# Altium footprint library SamacSys.PcbLib: 14 footprints
Each footprint in its own frame and in the unit in brackets; x right, y up, seen from the top. Pads: shape width x height; smd on the part's side, far side on the other; paste and mask are expansions set on the pad; w line width, h text height; cw(c..) or ccw(c..) is an arc to the next point about the centre after c.
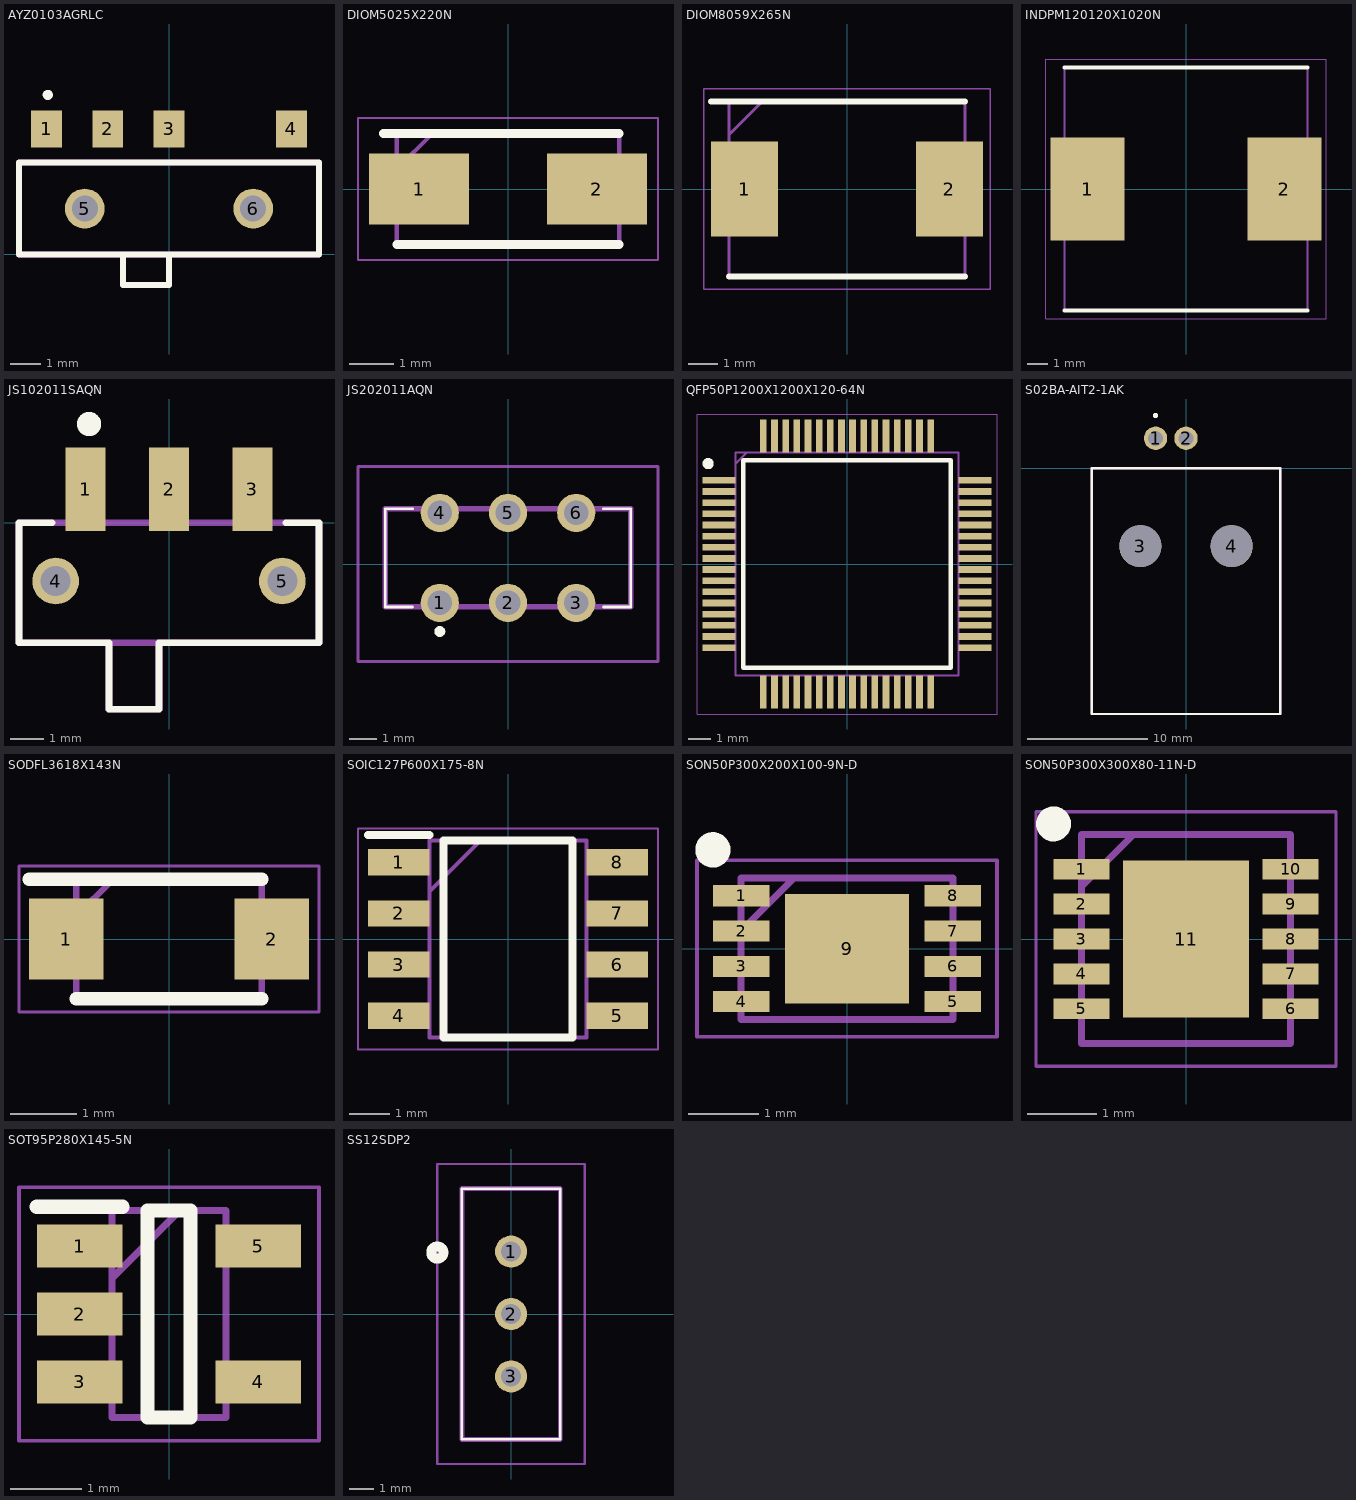
[diagram p0: the footprints below, top view; thin cyan lines are the x and y axes]

## AYZ0103AGRLC [mm]
pads (6):
  rect 1x1.2 smd: 1(-4,4.1) 2(-2,4.1) 3(0,4.1) 4(4,4.1)
  round 1.3 hole 0.85: 5(-2.75,1.5) 6(2.75,1.5)
Top Overlay:
  circle w0.2: c-3.96,5.212 r0.065
  lines w0.2: -1.5,0 -1.5,-1 0,-1 0,0 ; -4.9,0 -4.9,3 4.9,3 4.9,0 -4.9,0
Mechanical 13:
  lines w0.2: -1.5,0.001 -1.5,-1 0,-1 0,0 ; -4.9,0 4.9,0 4.9,3 -4.9,3 -4.9,0

## DIOM5025X220N [mm]
pads (2):
  rect 2.25x1.6 smd: 1(-2,0) 2(2,0)
Top Overlay:
  lines w0.2: -2.8,1.25 2.5,1.25 ; -2.5,-1.25 2.5,-1.25
Mechanical 13:
  lines w0.1: -2.5,0.45 -1.7,1.25 ; -2.5,-1.25 2.5,-1.25 2.5,1.25 -2.5,1.25 -2.5,-1.25
Mechanical 15:
  lines w0.05: -3.375,-1.6 3.375,-1.6 3.375,1.6 -3.375,1.6 -3.375,-1.6
3D body "EC11FS2.stp": height 2.2, standoff 0, extent -2.5,-1.25 2.5,1.25

## DIOM8059X265N [mm]
pads (2):
  rect 2.25x3.2 smd: 1(-3.45,0) 2(3.45,0)
Top Overlay:
  lines w0.2: -4.575,2.95 3.975,2.95 ; -3.975,-2.95 3.975,-2.95
Mechanical 13:
  lines w0.1: -3.975,1.825 -2.85,2.95 ; -3.975,-2.95 -3.975,2.95 3.975,2.95 3.975,-2.95 -3.975,-2.95
Mechanical 15:
  lines w0.05: -4.825,-3.375 -4.825,3.375 4.825,3.375 4.825,-3.375 -4.825,-3.375
3D body "SS34.stp": height 2.65, standoff 0, extent -3.975,-2.95 3.975,2.95

## INDPM120120X1020N [mm]
pads (2):
  rect 3.65x5.1 smd: 1(-4.85,0) 2(4.85,0)
Top Overlay:
  lines w0.2: -6,-6 6,-6 ; -6,6 6,6
Mechanical 13:
  lines w0.1: -6,-6 -6,6 6,6 6,-6 -6,-6
Mechanical 15:
  lines w0.05: -6.925,-6.4 -6.925,6.4 6.925,6.4 6.925,-6.4 -6.925,-6.4
3D body "MSS1210-683MED.stp": height 10.2, standoff 0, extent -6,-6 6,6

## JS102011SAQN [mm]
pads (5):
  rect 1.2x2.5 smd: 1(-2.5,1) 2(0,1) 3(2.5,1)
  round 1.4 hole 0.9: 4(-3.4,-1.75) 5(3.4,-1.75)
Top Overlay:
  circle w0.4: c-2.399,2.96 r0.164
  lines w0.2: -3.5,0 -4.5,0 -4.5,-3.6 -1.8,-3.6 -1.8,-5.6 -0.3,-5.6 -0.3,-3.6 4.5,-3.6 4.5,0 3.5,0
Mechanical 13:
  lines w0.2: -1.8,-3.6 -1.8,-5.6 -0.3,-5.6 -0.3,-3.6 ; -4.5,-3.6 4.5,-3.6 4.5,0 -4.5,0 -4.5,-3.6
3D body "User Library-Mini Slide Switch-3Ppin-SPDT-0_3A.STEP": height 6.5, standoff -5, extent -4.182,-3.446 4.318,0.254

## JS202011AQN [mm]
pads (6):
  round 1.4 hole 0.9: 1(-2.5,-1.425) 2(0,-1.425) 3(2.5,-1.425) 4(-2.5,1.875) 5(0,1.875) 6(2.5,1.875)
Top Overlay:
  lines w0.1: -3.5,-1.575 -4.5,-1.575 -4.5,2.025 -3.5,2.025 ; 3.5,-1.575 4.5,-1.575 4.5,2.025 3.5,2.025
  lines w0.2: -2.6,-2.475 ccw(c-2.5,-2.475) -2.4,-2.475 ccw(c-2.5,-2.475) -2.6,-2.475
Mechanical 13:
  lines w0.2: -4.5,-1.575 -4.5,2.025 4.5,2.025 4.5,-1.575 -4.5,-1.575
Mechanical 15:
  lines w0.1: -5.5,-3.575 -5.5,3.575 5.5,3.575 5.5,-3.575 -5.5,-3.575

## QFP50P1200X1200X120-64N [mm]
pads (64):
  rect 1.475x0.3 smd: 1(-5.738,3.75) 2(-5.738,3.25) 3(-5.738,2.75) 4(-5.738,2.25) 5(-5.738,1.75) 6(-5.738,1.25) 7(-5.738,0.75) 8(-5.738,0.25) 9(-5.738,-0.25) 10(-5.738,-0.75) 11(-5.738,-1.25) 12(-5.738,-1.75) 13(-5.738,-2.25) 14(-5.738,-2.75) 15(-5.738,-3.25) 16(-5.738,-3.75) 33(5.738,-3.75) 34(5.738,-3.25) 35(5.738,-2.75) 36(5.738,-2.25) 37(5.738,-1.75) 38(5.738,-1.25) 39(5.738,-0.75) 40(5.738,-0.25) 41(5.738,0.25) 42(5.738,0.75) 43(5.738,1.25) 44(5.738,1.75) 45(5.738,2.25) 46(5.738,2.75) 47(5.738,3.25) 48(5.738,3.75)
  rect 0.3x1.475 smd: 17(-3.75,-5.738) 18(-3.25,-5.738) 19(-2.75,-5.738) 20(-2.25,-5.738) 21(-1.75,-5.738) 22(-1.25,-5.738) 23(-0.75,-5.738) 24(-0.25,-5.738) 25(0.25,-5.738) 26(0.75,-5.738) 27(1.25,-5.738) 28(1.75,-5.738) 29(2.25,-5.738) 30(2.75,-5.738) 31(3.25,-5.738) 32(3.75,-5.738) 49(3.75,5.738) 50(3.25,5.738) 51(2.75,5.738) 52(2.25,5.738) 53(1.75,5.738) 54(1.25,5.738) 55(0.75,5.738) 56(0.25,5.738) 57(-0.25,5.738) 58(-0.75,5.738) 59(-1.25,5.738) 60(-1.75,5.738) 61(-2.25,5.738) 62(-2.75,5.738) 63(-3.25,5.738) 64(-3.75,5.738)
Top Overlay:
  circle w0.25: c-6.225,4.5 r0.125
  lines w0.2: -4.65,-4.65 4.65,-4.65 4.65,4.65 -4.65,4.65 -4.65,-4.65
Mechanical 13:
  lines w0.1: -5,4.5 -4.5,5 ; -5,-5 5,-5 5,5 -5,5 -5,-5
Mechanical 15:
  lines w0.05: -6.725,-6.725 6.725,-6.725 6.725,6.725 -6.725,6.725 -6.725,-6.725
3D body "ADS1299-4PAGR.stp": height 1.2, standoff 0, extent -6,-6 6,6

## S02BA-AIT2-1AK [mm]
pads (4):
  round 1.95 hole 1.25: 1(-2.54,2.508) 2(0,2.508)
  round 3.5 hole 3.5 unplated: 3(-3.81,-6.492) 4(3.81,-6.492)
Top Overlay:
  circle w0.2: c-2.541,4.425 r0.113
  lines w0.2: -7.87,-20.5 7.87,-20.5 7.87,0 -7.87,0 -7.87,-20.5
Mechanical 13:
  lines w0.2: -7.87,-20.5 -7.87,0 7.87,0 7.87,-20.5 -7.87,-20.5

## SODFL3618X143N [mm]
pads (2):
  rect 1.12x1.22 smd: 1(-1.55,0) 2(1.55,0)
Top Overlay:
  lines w0.2: -2.11,0.9 1.4,0.9 ; -1.4,-0.9 1.4,-0.9
Mechanical 13:
  lines w0.1: -1.4,0.34 -0.84,0.9 ; -1.4,-0.9 -1.4,0.9 1.4,0.9 1.4,-0.9 -1.4,-0.9
Mechanical 15:
  lines w0.05: -2.26,-1.1 -2.26,1.1 2.26,1.1 2.26,-1.1 -2.26,-1.1
3D body "SS34FA.stp": height 1.43, standoff 0, extent -1.8,-0.9 1.8,0.9

## SOIC127P600X175-8N [mm]
pads (8):
  rect 1.525x0.65 smd: 1(-2.712,1.905) 2(-2.712,0.635) 3(-2.712,-0.635) 4(-2.712,-1.905) 5(2.712,-1.905) 6(2.712,-0.635) 7(2.712,0.635) 8(2.712,1.905)
Top Overlay:
  lines w0.2: -3.475,2.58 -1.95,2.58 ; -1.6,-2.45 1.6,-2.45 1.6,2.45 -1.6,2.45 -1.6,-2.45
Mechanical 13:
  lines w0.1: -1.95,1.18 -0.68,2.45 ; -1.95,-2.45 1.95,-2.45 1.95,2.45 -1.95,2.45 -1.95,-2.45
Mechanical 15:
  lines w0.05: -3.725,-2.75 3.725,-2.75 3.725,2.75 -3.725,2.75 -3.725,-2.75
3D body "NE555DR.stp": height 1.75, standoff 0, extent -3,-2.45 3,2.45

## SON50P300X200X100-9N-D [mm]
pads (9):
  rect 0.8x0.3 smd: 1(-1.5,0.75) 2(-1.5,0.25) 3(-1.5,-0.25) 4(-1.5,-0.75) 5(1.5,-0.75) 6(1.5,-0.25) 7(1.5,0.25) 8(1.5,0.75)
  rect 1.75x1.55 smd: 9(0,0)
Top Overlay:
  circle w0.25: c-1.9,1.4 r0.125
Mechanical 13:
  lines w0.1: -1.5,0.25 -0.75,1 ; -1.5,-1 -1.5,1 1.5,1 1.5,-1 -1.5,-1
Mechanical 15:
  lines w0.05: -2.125,-1.25 -2.125,1.25 2.125,1.25 2.125,-1.25 -2.125,-1.25
3D body "MCP73832-3ACI_MC.stp": height 1, standoff 0, extent -1.55,-1 1.55,1

## SON50P300X300X80-11N-D [mm]
pads (11):
  rect 0.8x0.3 smd: 1(-1.5,1) 2(-1.5,0.5) 3(-1.5,0) 4(-1.5,-0.5) 5(-1.5,-1) 6(1.5,-1) 7(1.5,-0.5) 8(1.5,0) 9(1.5,0.5) 10(1.5,1)
  rect 1.8x2.25 smd: 11(0,0)
Top Overlay:
  circle w0.25: c-1.9,1.65 r0.125
Mechanical 13:
  lines w0.1: -1.5,0.75 -0.75,1.5 ; -1.5,-1.5 -1.5,1.5 1.5,1.5 1.5,-1.5 -1.5,-1.5
Mechanical 15:
  lines w0.05: -2.15,-1.825 -2.15,1.825 2.15,1.825 2.15,-1.825 -2.15,-1.825
3D body "TPS63060DSCT.stp": height 0.8, standoff 0, extent -1.55,-1.5 1.55,1.5

## SOT95P280X145-5N [mm]
pads (5):
  rect 1.2x0.6 smd: 1(-1.25,0.95) 2(-1.25,0) 3(-1.25,-0.95) 4(1.25,-0.95) 5(1.25,0.95)
Top Overlay:
  lines w0.2: -1.85,1.5 -0.65,1.5 ; -0.3,-1.45 -0.3,1.45 0.3,1.45 0.3,-1.45 -0.3,-1.45
Mechanical 13:
  lines w0.1: -0.8,0.5 0.15,1.45 ; -0.8,-1.45 -0.8,1.45 0.8,1.45 0.8,-1.45 -0.8,-1.45
Mechanical 15:
  lines w0.05: -2.1,-1.775 -2.1,1.775 2.1,1.775 2.1,-1.775 -2.1,-1.775
3D body "TPS60403DBVR.stp": height 1.45, standoff 0, extent -1.4,-1.45 1.4,1.45

## SS12SDP2 [mm]
pads (3):
  round 1.3 hole 0.8: 1(0,2.54) 2(0,0) 3(0,-2.54)
Top Overlay:
  lines w0.1: -2,-5.1 -2,5.1 2,5.1 2,-5.1 -2,-5.1
  lines w0.4: -3,2.25 cw(c-3,2.5) -3,2.75 cw(c-3,2.5) -3,2.25
Mechanical 13:
  lines w0.2: -2,-5.1 -2,5.1 2,5.1 2,-5.1 -2,-5.1
Mechanical 15:
  lines w0.1: -3,-6.1 -3,6.1 3,6.1 3,-6.1 -3,-6.1
3D body "SS12SDP2.stp": height 4, standoff -5, extent -2,-5.1 2,5.1